# Altium schematic symbol library 12401832E402A.SchLib: 1 symbol
Pins are listed as number, name and electrical type; pins without a type are passive.

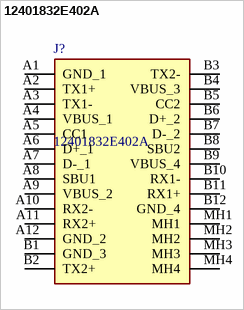
[diagram p0: symbol 12401832E402A]

## 12401832E402A
designator J?
USB3.2 GEN2, Type C, Top mount, CH 1.58mm, Dual Row SMT; Manufacturer_Name: Amphenol Communications Solutions; Geometry.Height: 3.53mm; Mouser Part Number: 523-12401832E402A; Mouser Price/Stock: https://www.mouser.co.uk/ProductDetail/Amphenol-Commercial-Products/12401832E402A?qs=5aG0NVq1C4zkz1mXTcv%2FVQ%3D%3D; Manufacturer_Part_Number: 12401832E402A; Datasheet Link: https://cdn.amphenol-cs.com/media/wysiwyg/files/documentation/datasheet/inputoutput/io_usb_type_c.pdf
footprint 12401832E402A
pins: A1 GND_1, A2 TX1+, A3 TX1-, A4 VBUS_1, A5 CC1, A6 D+_1, A7 D-_1, A8 SBU1, A9 VBUS_2, A10 RX2-, A11 RX2+, A12 GND_2, B1 GND_3, B2 TX2+, B3 TX2-, B4 VBUS_3, B5 CC2, B6 D+_2, B7 D-_2, B8 SBU2, B9 VBUS_4, B10 RX1-, B11 RX1+, B12 GND_4, MH1, MH2, MH3, MH4